# Altium schematic symbol library LED.SchLib: 54 symbols
Pins are listed as number, name and electrical type; pins without a type are passive.

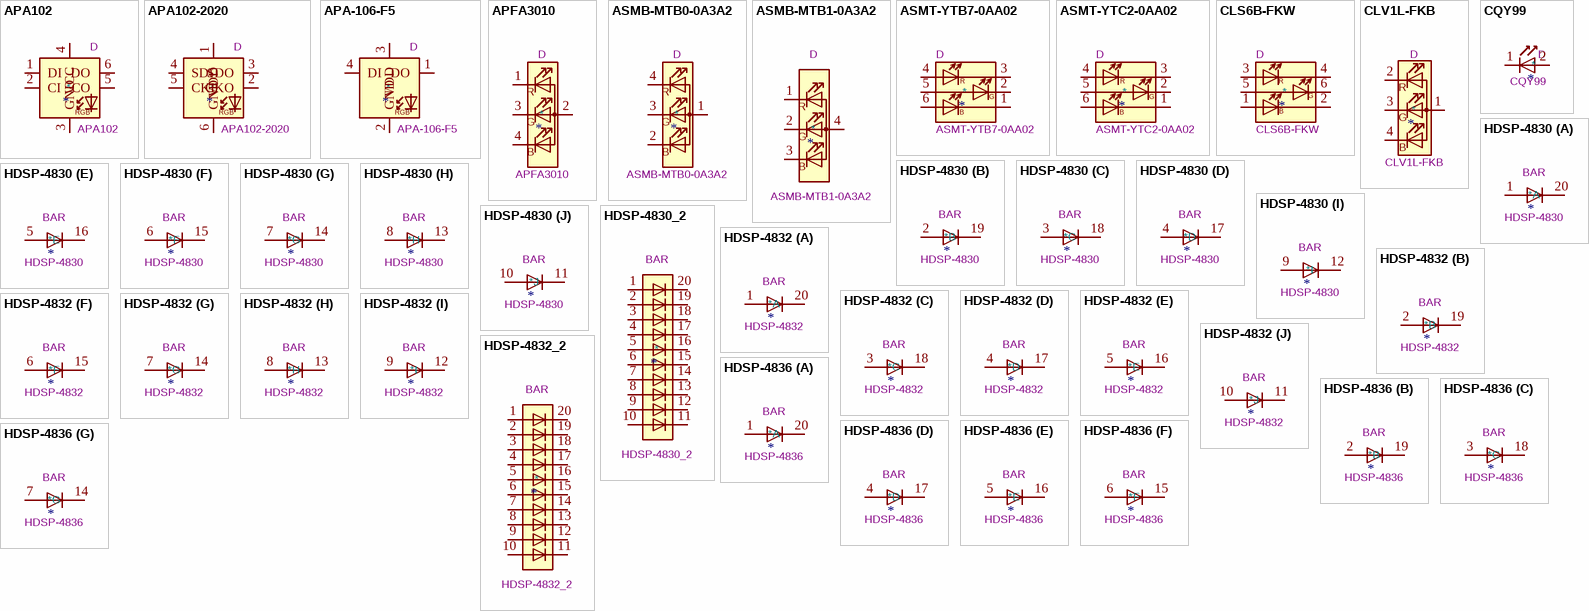
[diagram p0: symbols APA102 to HDSP-4836]

## APA102
designator *  value APA102  Reference: D
ki_keywords: RGB LED addressable 8bit pwm 5bit greyscale; ki_description: RGB LED with integrated controller; ki_fp_filters: LED*RGB*5050*; Footprint: LED_SMD:LED_RGB_5050-6; Datasheet: http://www.led-color.com/upload/201506/APA102%20LED.pdf
pins: 1 DI, 2 CI, 3 GND, 4 VCC, 5 CO, 6 DO
text: RGB

## APA102-2020
designator *  value APA102-2020  Reference: D
ki_keywords: RGB LED addressable 8bit pwm 5bit greyscale; ki_description: RGB LED with integrated controller; ki_fp_filters: LED*APA102*; Footprint: LED_SMD:LED-APA102-2020; Datasheet: http://www.led-color.com/upload/201604/APA102-2020%20SMD%20LED.pdf
pins: 1 VDD, 2 CKO, 3 SDO, 4 SDI, 5 CKI, 6 GND
text: RGB

## APA-106-F5
designator *  value APA-106-F5  Reference: D
ki_keywords: RGB LED addressable 8bit pwm 5bit greyscale; ki_description: RGB LED with integrated controller, 5mm Package; ki_fp_filters: LED*D5.0mm*RGB*; Footprint: LED_THT:LED_D5.0mm-4_RGB; Datasheet: https://cdn.sparkfun.com/datasheets/Components/LED/COM-12877.pdf
pins: 1 DO, 2 GND, 3 VDD, 4 DI
text: RGB

## APFA3010
designator *  value APFA3010  Reference: D
ki_keywords: LED RGB SMD Kingbright APFA3010 Horizontal; ki_description: LED RGB, Common Anode, SMD, 3.0x1.5mm, Horizontal; ki_fp_filters: *Kingbright*APFA3010*3x1.5mm*Horizontal*; Footprint: LED_SMD:LED_Kingbright_APFA3010_3x1.5mm_Horizontal; Datasheet: http://www.kingbrightusa.com/images/catalog/SPEC/APFA3010LSEEZGKQBKC.pdf
pins: 1 R, 2 A, 3 G, 4 B

## ASMB-MTB0-0A3A2
designator *  value ASMB-MTB0-0A3A2  Reference: D
ki_keywords: led rgb diode; ki_description: Tricolor Black Surface LED, Common Anode Pin 1, PLCC-4; ki_fp_filters: *Avago*PLCC4*3.2x2.8mm*; Footprint: LED_SMD:LED_Avago_PLCC4_3.2x2.8mm_CW; Datasheet: https://docs.broadcom.com/docs/AV02-4186EN
pins: 1 A, 2 BK, 3 GK, 4 RK
text: R; G; B

## ASMB-MTB1-0A3A2
designator *  value ASMB-MTB1-0A3A2  Reference: D
ki_keywords: led rgb diode; ki_description: Tricolor Black Surface LED, Common Anode Pin 4, PLCC-4; ki_fp_filters: *Avago*PLCC4*3.2x2.8mm*; Footprint: LED_SMD:LED_Avago_PLCC4_3.2x2.8mm_CW; Datasheet: https://docs.broadcom.com/docs/AV02-4194EN
pins: 1 RK, 2 GK, 3 BK, 4 A
text: R; G; B

## ASMT-YTB7-0AA02
designator *  value ASMT-YTB7-0AA02  Reference: D
ki_keywords: LED RGB; ki_description: Triple LED RVB (Avago Technology); ki_fp_filters: LED?Avago?PLCC6?3x2.8mm*; Footprint: LED_SMD:LED_Avago_PLCC6_3x2.8mm; Datasheet: https://docs.broadcom.com/docs/AV02-3793EN
pins: 1 KB, 2 KG, 3 KR, 4 AR, 5 AG, 6 AB
text: R; G; B

## ASMT-YTC2-0AA02
designator *  value ASMT-YTC2-0AA02  Reference: D
ki_keywords: LED RGB; ki_description: Triple LED RVB (Avago Technology); ki_fp_filters: LED?Avago?PLCC6?3x2.8mm*; Footprint: LED_SMD:LED_Avago_PLCC6_3x2.8mm; Datasheet: http://www.avagotech.com/docs/AV02-2589EN
pins: 1 KB, 2 KG, 3 KR, 4 AR, 5 AG, 6 AB
text: R; G; B

## CLS6B-FKW
designator *  value CLS6B-FKW  Reference: D
ki_keywords: LED RGB; ki_description: Cree PLCC6 3 in 1 SMD LED, PLCC-6; ki_fp_filters: LED*Cree*PLCC*4.7x1.5mm*; Footprint: LED_SMD:LED_Cree-PLCC6_4.7x1.5mm; Datasheet: https://www.cree.com/led-components/media/documents/CLS6B-FKW.pdf
pins: 1 AB, 2 KB, 3 AR, 4 KR, 5 AG, 6 KR
text: R; G; B

## CLV1L-FKB
designator *  value CLV1L-FKB  Reference: D
ki_keywords: led rgb diode; ki_description: Cree PLCC4 3 in 1 SMD LED; ki_fp_filters: *Cree*PLCC4*3.2x2.8mm*; Footprint: LED_SMD:LED_Cree-PLCC4_3.2x2.8mm_CCW; Datasheet: http://www.cree.com/led-components/media/documents/CLV1L-FKB-1238.pdf
pins: 1 A, 2 RK, 3 GK, 4 BK
text: R; G; B

## CQY99
designator *  value CQY99  Reference: D
ki_keywords: IR LED; ki_description: 950nm IR-LED, 5mm; ki_fp_filters: LED*5.0mm*IRGrey*; Footprint: LED_THT:LED_D5.0mm_IRGrey; Datasheet: https://www.prtice.info/IMG/pdf/CQY99.pdf
pins: 1 K, 2 A

## HDSP-4830
designator *  value HDSP-4830  Reference: BAR
ki_keywords: display LED array; ki_description: 10-element LED arrays, high efficient red; ki_fp_filters: HDSP?48*; Footprint: Display:HDSP-4830; Datasheet: https://docs.broadcom.com/docs/AV02-1798EN
part A pins: 1 A, 20 K
part B pins: 2 A, 19 K
part C pins: 3 A, 18 K
part D pins: 4 A, 17 K
part E pins: 5 A, 16 K
part F pins: 6 A, 15 K
part G pins: 7 A, 14 K
part H pins: 8 A, 13 K
part I pins: 9 A, 12 K
part J pins: 10 A, 11 K

## HDSP-4830_2
designator *  value HDSP-4830_2  Reference: BAR
ki_keywords: display LED array; ki_description: BAR GRAPH 10 segment block, high efficiency red; ki_fp_filters: HDSP?48*; Footprint: Display:HDSP-4830; Datasheet: https://docs.broadcom.com/docs/AV02-1798EN
pins: 1 A, 2 A, 3 A, 4 A, 5 A, 6 A, 7 A, 8 A, 9 A, 10 A, 11 K, 12 K, 13 K, 14 K, 15 K, 16 K, 17 K, 18 K, 19 K, 20 K

## HDSP-4832
designator *  value HDSP-4832  Reference: BAR
ki_keywords: display LED array; ki_description: 10-element LED arrays, Mix of high efficient red, yellow and green; ki_fp_filters: HDSP?48*; Footprint: Display:HDSP-4832; Datasheet: https://docs.broadcom.com/docs/AV02-1798EN
part A pins: 1 A, 20 K
part B pins: 2 A, 19 K
part C pins: 3 A, 18 K
part D pins: 4 A, 17 K
part E pins: 5 A, 16 K
part F pins: 6 A, 15 K
part G pins: 7 A, 14 K
part H pins: 8 A, 13 K
part I pins: 9 A, 12 K
part J pins: 10 A, 11 K

## HDSP-4832_2
designator *  value HDSP-4832_2  Reference: BAR
ki_keywords: display LED array; ki_description: BAR GRAPH 10 segment block, Mix of high efficiency red, yellow and green; ki_fp_filters: HDSP?48*; Footprint: Display:HDSP-4832; Datasheet: https://docs.broadcom.com/docs/AV02-1798EN
pins: 1 A, 2 A, 3 A, 4 A, 5 A, 6 A, 7 A, 8 A, 9 A, 10 A, 11 K, 12 K, 13 K, 14 K, 15 K, 16 K, 17 K, 18 K, 19 K, 20 K

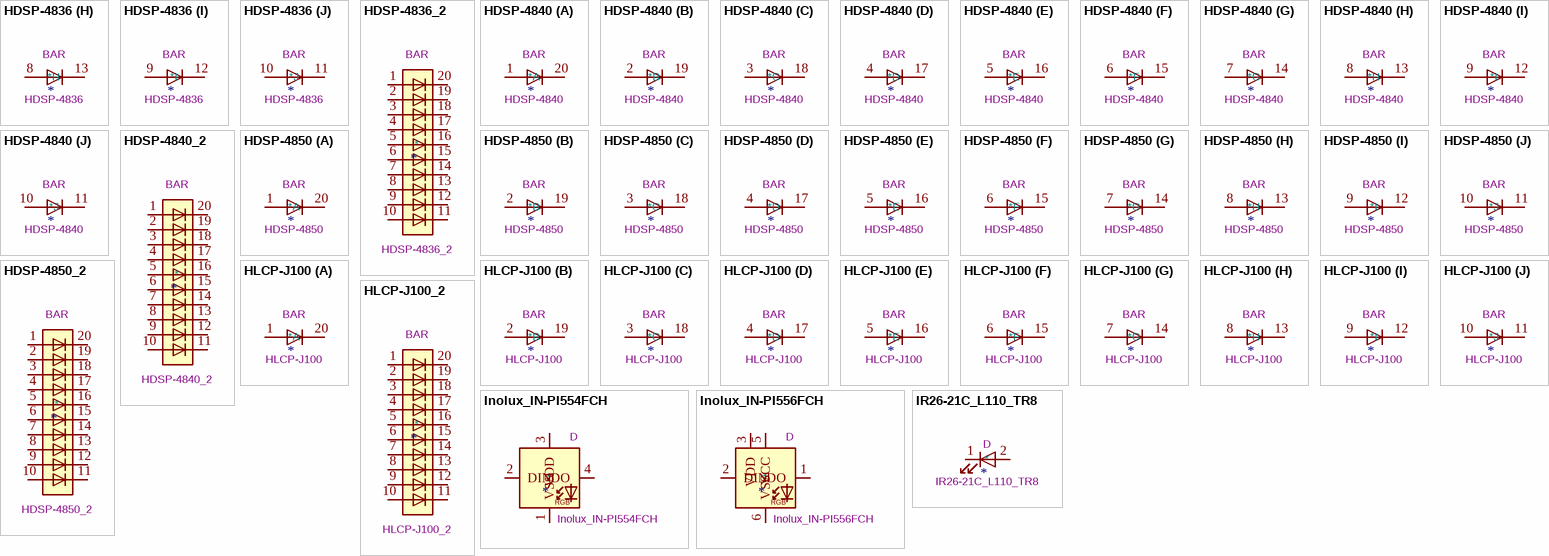
[diagram p1: symbols HDSP-4836 to IR26-21C_L110_TR8]

## HDSP-4836
designator *  value HDSP-4836  Reference: BAR
ki_keywords: display LED array; ki_description: 10-element LED arrays, Mix of high efficient red, yellow and green; ki_fp_filters: HDSP?48*; Footprint: Display:HDSP-4836; Datasheet: https://docs.broadcom.com/docs/AV02-1798EN
part A pins: 1 A, 20 K
part B pins: 2 A, 19 K
part C pins: 3 A, 18 K
part D pins: 4 A, 17 K
part E pins: 5 A, 16 K
part F pins: 6 A, 15 K
part G pins: 7 A, 14 K
part H pins: 8 A, 13 K
part I pins: 9 A, 12 K
part J pins: 10 A, 11 K

## HDSP-4836_2
designator *  value HDSP-4836_2  Reference: BAR
ki_keywords: display LED array; ki_description: BAR GRAPH 10 segment block, Mix of high efficiency red, yellow and green; ki_fp_filters: HDSP?48*; Footprint: Display:HDSP-4836; Datasheet: https://docs.broadcom.com/docs/AV02-1798EN
pins: 1 A, 2 A, 3 A, 4 A, 5 A, 6 A, 7 A, 8 A, 9 A, 10 A, 11 K, 12 K, 13 K, 14 K, 15 K, 16 K, 17 K, 18 K, 19 K, 20 K

## HDSP-4840
designator *  value HDSP-4840  Reference: BAR
ki_keywords: display LED array; ki_description: 10-element LED arrays, Yellow; ki_fp_filters: HDSP?48*; Footprint: Display:HDSP-4840; Datasheet: https://docs.broadcom.com/docs/AV02-1798EN
part A pins: 1 A, 20 K
part B pins: 2 A, 19 K
part C pins: 3 A, 18 K
part D pins: 4 A, 17 K
part E pins: 5 A, 16 K
part F pins: 6 A, 15 K
part G pins: 7 A, 14 K
part H pins: 8 A, 13 K
part I pins: 9 A, 12 K
part J pins: 10 A, 11 K

## HDSP-4840_2
designator *  value HDSP-4840_2  Reference: BAR
ki_keywords: display LED array; ki_description: BAR GRAPH 10 segment block, yellow; ki_fp_filters: HDSP?48*; Footprint: Display:HDSP-4840; Datasheet: https://docs.broadcom.com/docs/AV02-1798EN
pins: 1 A, 2 A, 3 A, 4 A, 5 A, 6 A, 7 A, 8 A, 9 A, 10 A, 11 K, 12 K, 13 K, 14 K, 15 K, 16 K, 17 K, 18 K, 19 K, 20 K

## HDSP-4850
designator *  value HDSP-4850  Reference: BAR
ki_keywords: display LED array; ki_description: 10-element LED arrays, Green; ki_fp_filters: HDSP?48*; Footprint: Display:HDSP-4850; Datasheet: https://docs.broadcom.com/docs/AV02-1798EN
part A pins: 1 A, 20 K
part B pins: 2 A, 19 K
part C pins: 3 A, 18 K
part D pins: 4 A, 17 K
part E pins: 5 A, 16 K
part F pins: 6 A, 15 K
part G pins: 7 A, 14 K
part H pins: 8 A, 13 K
part I pins: 9 A, 12 K
part J pins: 10 A, 11 K

## HDSP-4850_2
designator *  value HDSP-4850_2  Reference: BAR
ki_keywords: display LED array; ki_description: BAR GRAPH 10 segment block, green; ki_fp_filters: HDSP?48*; Footprint: Display:HDSP-4850; Datasheet: https://docs.broadcom.com/docs/AV02-1798EN
pins: 1 A, 2 A, 3 A, 4 A, 5 A, 6 A, 7 A, 8 A, 9 A, 10 A, 11 K, 12 K, 13 K, 14 K, 15 K, 16 K, 17 K, 18 K, 19 K, 20 K

## HLCP-J100
designator *  value HLCP-J100  Reference: BAR
ki_keywords: display LED array; ki_description: 10-element LED arrays, AIGaAs Red; ki_fp_filters: HLCP*J100*; Footprint: Display:HLCP-J100; Datasheet: https://docs.broadcom.com/docs/AV02-1798EN
part A pins: 1 A, 20 K
part B pins: 2 A, 19 K
part C pins: 3 A, 18 K
part D pins: 4 A, 17 K
part E pins: 5 A, 16 K
part F pins: 6 A, 15 K
part G pins: 7 A, 14 K
part H pins: 8 A, 13 K
part I pins: 9 A, 12 K
part J pins: 10 A, 11 K

## HLCP-J100_2
designator *  value HLCP-J100_2  Reference: BAR
ki_keywords: display LED array; ki_description: BAR GRAPH 10 segment block, AlGaAs red; ki_fp_filters: HLCP?J100*; Footprint: Display:HLCP-J100; Datasheet: https://docs.broadcom.com/docs/AV02-1798EN
pins: 1 A, 2 A, 3 A, 4 A, 5 A, 6 A, 7 A, 8 A, 9 A, 10 A, 11 K, 12 K, 13 K, 14 K, 15 K, 16 K, 17 K, 18 K, 19 K, 20 K

## Inolux_IN-PI554FCH
designator *  value Inolux_IN-PI554FCH  Reference: D
ki_keywords: RGB LED NeoPixel addressable; ki_description: 5050 RGB LED 4-Pin with integrated IC; ki_fp_filters: LED*IN-PI554FCH*PLCC*5.0x5.0mm*P3.2mm*; Footprint: LED_SMD:LED_Inolux_IN-PI554FCH_PLCC4_5.0x5.0mm_P3.2mm; Datasheet: http://www.inolux-corp.com/datasheet/SMDLED/Addressable%20LED/IN-PI554FCH.pdf
pins: 1 VSS, 2 DIN, 3 VDD, 4 DO
text: RGB

## Inolux_IN-PI556FCH
designator *  value Inolux_IN-PI556FCH  Reference: D
ki_keywords: RGB LED NeoPixel addressable; ki_description: 5050 RGB LED 6-Pin with integrated IC; ki_fp_filters: LED*WS2812*PLCC*5.0x5.0mm*P1.6mm*; Footprint: LED_SMD:LED_WS2812_PLCC6_5.0x5.0mm_P1.6mm; Datasheet: http://www.inolux-corp.com/datasheet/SMDLED/Addressable%20LED/IN-PI556FCH.pdf
pins: 1 DO, 2 DIN, 3 VDD, 4 NC hidden, 5 VCC, 6 VSS
text: RGB

## IR26-21C_L110_TR8
designator *  value IR26-21C_L110_TR8  Reference: D
ki_keywords: IR LED; ki_description: 940nm, 20 deg, Infrared LED, 1206; ki_fp_filters: LED*1206*3216Metric*; Footprint: LED_SMD:LED_1206_3216Metric; Datasheet: http://www.everlight.com/file/ProductFile/IR26-21C-L110-TR8.pdf
pins: 1 K, 2 A

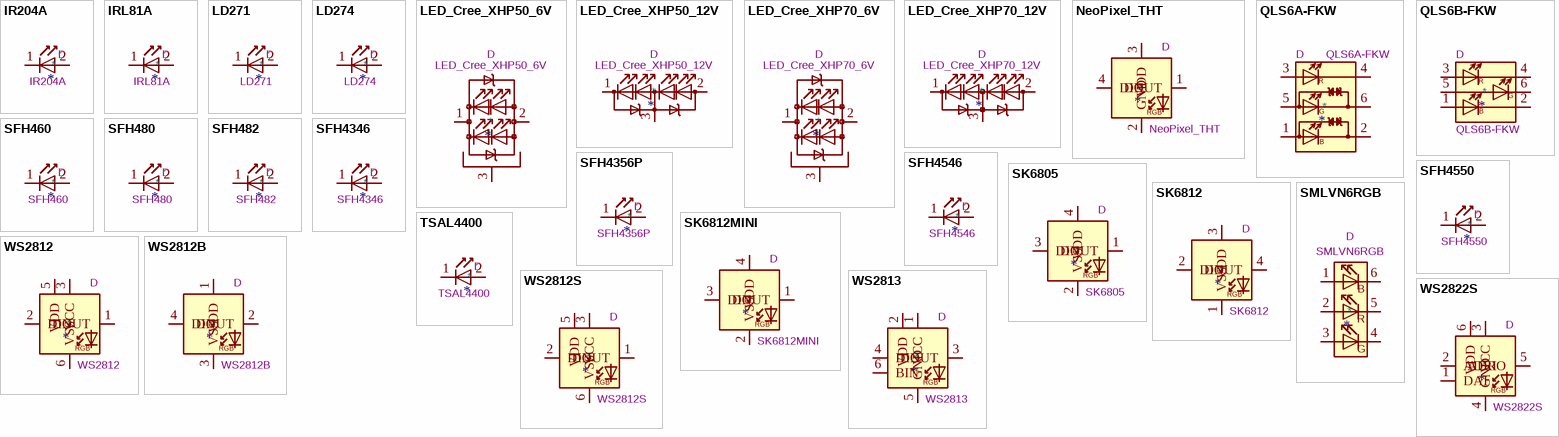
[diagram p2: symbols IR204A to WS2822S]

## IR204A
designator *  value IR204A  Reference: D
ki_keywords: opto IR LED; ki_description: Infrared LED , 3mm LED package; ki_fp_filters: LED*3.0mm*IRBlack*; Footprint: LED_THT:LED_D3.0mm_IRBlack; Datasheet: http://www.everlight.com/file/ProductFile/IR204-A.pdf
pins: 1 K, 2 A

## IRL81A
designator *  value IRL81A  Reference: D
ki_keywords: IR LED; ki_description: 850nm High Power Infrared Emitter, Side-Emitter package; ki_fp_filters: LED*SideEmitter*Rectangular*W4.5mm*H1.6mm*; Footprint: LED_THT:LED_SideEmitter_Rectangular_W4.5mm_H1.6mm; Datasheet: http://www.osram-os.com/Graphics/XPic0/00203825_0.pdf
pins: 1 K, 2 A

## LD271
designator *  value LD271  Reference: D
ki_keywords: IR LED; ki_description: 940nm IR-LED, 5mm; ki_fp_filters: LED*5.0mm*IRGrey*; Footprint: LED_THT:LED_D5.0mm_IRGrey; Datasheet: http://www.alliedelec.com/m/d/40788c34903a719969df15f1fbea1056.pdf
pins: 1 K, 2 A

## LD274
designator *  value LD274  Reference: D
ki_keywords: IR LED; ki_description: 950nm IR-LED, 5mm; ki_fp_filters: LED*5.0mm*IRGrey*; Footprint: LED_THT:LED_D5.0mm_IRGrey; Datasheet: http://pdf.datasheetcatalog.com/datasheet/siemens/LD274.pdf
pins: 1 K, 2 A

## LED_Cree_XHP50_6V
designator *  value LED_Cree_XHP50_6V  Reference: D
ki_keywords: led diode; ki_description: XLamp® XHP50 LED, 6V footprint (2x2 serial LEDs in parallel); ki_fp_filters: LED?Cree?XHP50?6V*; Footprint: LED_SMD:LED_Cree-XHP50_6V; Datasheet: http://www.cree.com/%7E/media/Files/Cree/LED%20Components%20and%20Modules/XLamp/Data%20and%20Binning/ds%20XHP50.pdf
pins: 1 K, 2 A, 3 PAD

## LED_Cree_XHP50_12V
designator *  value LED_Cree_XHP50_12V  Reference: D
ki_keywords: led diode; ki_description: XLamp® XHP50 LED, 12V footprint (all 4 LEDs in series); ki_fp_filters: LED?Cree?XHP50?12V*; Footprint: LED_SMD:LED_Cree-XHP50_12V; Datasheet: http://www.cree.com/%7E/media/Files/Cree/LED%20Components%20and%20Modules/XLamp/Data%20and%20Binning/ds%20XHP50.pdf
pins: 1 K, 2 A, 3 PAD

## LED_Cree_XHP70_6V
designator *  value LED_Cree_XHP70_6V  Reference: D
ki_keywords: led diode; ki_description: XLamp® XHP70 LED, 6V footprint (2x2 serial LEDs in parallel); ki_fp_filters: LED?Cree?XHP70?6V*; Footprint: LED_SMD:LED_Cree-XHP70_6V; Datasheet: http://www.cree.com/%7E/media/Files/Cree/LED%20Components%20and%20Modules/XLamp/Data%20and%20Binning/ds%20XHP70.pdf
pins: 1 K, 2 A, 3 PAD

## LED_Cree_XHP70_12V
designator *  value LED_Cree_XHP70_12V  Reference: D
ki_keywords: led diode; ki_description: XLamp® XHP70 LED, 12V footprint (all 4 LEDs in series); ki_fp_filters: LED?Cree?XHP70?12V*; Footprint: LED_SMD:LED_Cree-XHP70_12V; Datasheet: http://www.cree.com/%7E/media/Files/Cree/LED%20Components%20and%20Modules/XLamp/Data%20and%20Binning/ds%20XHP70.pdf
pins: 1 K, 2 A, 3 PAD

## NeoPixel_THT
designator *  value NeoPixel_THT  Reference: D
ki_keywords: RGB LED NeoPixel addressable; ki_description: RGB LED with integrated controller, 5mm/8mm LED package; ki_fp_filters: LED*D5.0mm* LED*D8.0mm*; Datasheet: https://www.adafruit.com/product/1938
pins: 1 DOUT, 2 GND, 3 VDD, 4 DIN
text: RGB

## QLS6A-FKW
designator *  value QLS6A-FKW  Reference: D
ki_keywords: LED RGB; ki_description: Cree PLCC6 3 in 1 SMD LED with zener protection, PLCC-6; ki_fp_filters: LED*Cree*PLCC*4.7x1.5mm*; Footprint: LED_SMD:LED_Cree-PLCC6_4.7x1.5mm; Datasheet: https://www.cree.com/led-components/media/documents/1381-QLS6AFKW.pdf
pins: 1 AB, 2 KB, 3 AR, 4 KR, 5 AG, 6 KR
text: R; G; B

## QLS6B-FKW
designator *  value QLS6B-FKW  Reference: D
ki_keywords: LED RGB; ki_description: Cree PLCC6 3 in 1 SMD LED, PLCC-6; ki_fp_filters: LED*Cree*PLCC*4.7x1.5mm*; Footprint: LED_SMD:LED_Cree-PLCC6_4.7x1.5mm; Datasheet: https://www.cree.com/led-components/media/documents/1397-QLS6BFKW.pdf
pins: 1 AB, 2 KB, 3 AR, 4 KR, 5 AG, 6 KR
text: R; G; B

## SFH460
designator *  value SFH460  Reference: D
ki_keywords: opto IR LED; ki_description: GaAlAs Infrared LED, TO-18 package; ki_fp_filters: TO?18*Window*; Footprint: Package_TO_SOT_THT:TO-18-2_Window; Datasheet: http://www.osram-os.com/Graphics/XPic6/00029609_0.pdf/SFh%20460.pdf
pins: 1 K, 2 A

## SFH480
designator *  value SFH480  Reference: D
ki_keywords: IR LED Opto; ki_description: GaAlAs Infrared LED (880 nm), TO-18 package; ki_fp_filters: TO?18*Window*; Footprint: Package_TO_SOT_THT:TO-18-2_Window; Datasheet: http://www.osram-os.com/Graphics/XPic1/00083613_0.pdf
pins: 1 K, 2 A

## SFH482
designator *  value SFH482  Reference: D
ki_keywords: opto IR LED; ki_description: GaAlAs Infrared LED (880 nm), TO-18 package; ki_fp_filters: TO?18*Window*; Footprint: Package_TO_SOT_THT:TO-18-2_Window; Datasheet: http://www.osram-os.com/Graphics/XPic2/00182155_0.pdf/SFH%20482%20E7800,%20Lead%20(Pb)%20Free%20Product%20-%20RoHS%20Compliant.pdf
pins: 1 K, 2 A

## SFH4346
designator *  value SFH4346  Reference: D
ki_keywords: opto IR LED; ki_description: Infrared LED , 3mm LED package; ki_fp_filters: LED*3.0mm*IRBlack*; Footprint: LED_THT:LED_D3.0mm_IRBlack; Datasheet: http://cdn-reichelt.de/documents/datenblatt/A500/SFH4346.pdf
pins: 1 K, 2 A

## SFH4356P
designator *  value SFH4356P  Reference: D
ki_keywords: opto IR LED; ki_description: Infrared LED , 3mm LED package; ki_fp_filters: LED*3.0mm*IRBlack*; Footprint: LED_THT:LED_D3.0mm_IRBlack; Datasheet: http://www.osram-os.com/Graphics/XPic5/00181708_0.pdf
pins: 1 K, 2 A

## SFH4546
designator *  value SFH4546  Reference: D
ki_keywords: IR LED; ki_description: High-Power IR LED 940nm; ki_fp_filters: LED*5.0mm*IRGrey*; Footprint: LED_THT:LED_D5.0mm_IRGrey; Datasheet: http://www.osram-os.com/Graphics/XPic1/00101982_0.pdf
pins: 1 K, 2 A

## SFH4550
designator *  value SFH4550  Reference: D
ki_keywords: IR LED; ki_description: 950nm High-Power IR-LED, 5mm; ki_fp_filters: LED*5.0mm*IRGrey*; Footprint: LED_THT:LED_D5.0mm_IRGrey; Datasheet: http://www.osram-os.com/Graphics/XPic3/00116140_0.pdf
pins: 1 K, 2 A

## SK6805
designator *  value SK6805  Reference: D
ki_keywords: RGB LED NeoPixel Nano addressable; ki_description: RGB LED with integrated controller; ki_fp_filters: LED*SK6805*PLCC*2.4x2.7mm*P1.3mm*; Footprint: LED_SMD:LED_SK6805_PLCC4_2.4x2.7mm_P1.3mm; Datasheet: https://cdn-shop.adafruit.com/product-files/3484/3484_Datasheet.pdf
pins: 1 DOUT, 2 VSS, 3 DIN, 4 VDD
text: RGB

## SK6812
designator *  value SK6812  Reference: D
ki_keywords: RGB LED NeoPixel addressable; ki_description: RGB LED with integrated controller; ki_fp_filters: LED*SK6812*PLCC*5.0x5.0mm*P3.2mm*; Footprint: LED_SMD:LED_SK6812_PLCC4_5.0x5.0mm_P3.2mm; Datasheet: https://cdn-shop.adafruit.com/product-files/1138/SK6812+LED+datasheet+.pdf
pins: 1 VSS, 2 DIN, 3 VDD, 4 DOUT
text: RGB

## SK6812MINI
designator *  value SK6812MINI  Reference: D
ki_keywords: RGB LED NeoPixel Mini addressable; ki_description: RGB LED with integrated controller; ki_fp_filters: LED*SK6812MINI*PLCC*3.5x3.5mm*P1.75mm*; Footprint: LED_SMD:LED_SK6812MINI_PLCC4_3.5x3.5mm_P1.75mm; Datasheet: https://cdn-shop.adafruit.com/product-files/2686/SK6812MINI_REV.01-1-2.pdf
pins: 1 DOUT, 2 VSS, 3 DIN, 4 VDD
text: RGB

## SMLVN6RGB
designator *  value SMLVN6RGB  Reference: D
ki_keywords: LED RGB Diode; ki_description: High Brightness Tri-Color LED, RGB, 3.5x2.8mm; ki_fp_filters: LED*ROHM*SMLVN6*; Footprint: LED_SMD:LED_ROHM_SMLVN6; Datasheet: https://www.rohm.com/datasheet/SMLVN6RGB1U
pins: 1 BA, 2 RA, 3 GA, 4 GK, 5 RK, 6 BK
text: B; R; G

## TSAL4400
designator *  value TSAL4400  Reference: D
ki_keywords: opto IR LED; ki_description: Infrared LED , 3mm LED package; ki_fp_filters: LED*3.0mm*IRBlack*; Footprint: LED_THT:LED_D3.0mm_IRBlack; Datasheet: http://www.vishay.com/docs/81006/tsal4400.pdf
pins: 1 K, 2 A

## WS2812
designator *  value WS2812  Reference: D
ki_keywords: RGB LED NeoPixel addressable; ki_description: RGB LED with integrated controller; ki_fp_filters: LED*WS2812*PLCC*5.0x5.0mm*P1.6mm*; Footprint: LED_SMD:LED_WS2812_PLCC6_5.0x5.0mm_P1.6mm; Datasheet: https://cdn-shop.adafruit.com/datasheets/WS2812.pdf
pins: 1 DOUT, 2 DIN, 3 VCC, 4 NC hidden, 5 VDD, 6 VSS
text: RGB

## WS2812B
designator *  value WS2812B  Reference: D
ki_keywords: RGB LED NeoPixel addressable; ki_description: RGB LED with integrated controller; ki_fp_filters: LED*WS2812*PLCC*5.0x5.0mm*P3.2mm*; Footprint: LED_SMD:LED_WS2812B_PLCC4_5.0x5.0mm_P3.2mm; Datasheet: https://cdn-shop.adafruit.com/datasheets/WS2812B.pdf
pins: 1 VDD, 2 DOUT, 3 VSS, 4 DIN
text: RGB

## WS2812S
designator *  value WS2812S  Reference: D
ki_keywords: RGB LED addressable; ki_description: RGB LED with integrated controller; ki_fp_filters: LED*WS2812*PLCC*5.0x5.0mm*P1.6mm*; Footprint: LED_SMD:LED_WS2812_PLCC6_5.0x5.0mm_P1.6mm; Datasheet: http://www.world-semi.com/DownLoadFile/115
pins: 1 DOUT, 2 DIN, 3 VCC, 4 NC hidden, 5 VDD, 6 VSS
text: RGB

## WS2813
designator *  value WS2813  Reference: D
ki_keywords: RGB LED addressable; ki_description: RGB LED with integrated controller; ki_fp_filters: LED*WS2812*PLCC*5.0x5.0mm*P1.6mm*; Footprint: LED_SMD:LED_WS2812_PLCC6_5.0x5.0mm_P1.6mm; Datasheet: http://www.normandled.com/upload/201605/WS2813%20LED%20Datasheet.pdf
pins: 1 VCC, 2 VDD, 3 DOUT, 4 DIN, 5 GND, 6 BIN
text: RGB

## WS2822S
designator *  value WS2822S  Reference: D
ki_keywords: RGB LED addressable; ki_description: RGB LED with integrated controller; ki_fp_filters: LED*WS2812*PLCC*5.0x5.0mm*P1.6mm*; Footprint: LED_SMD:LED_WS2812_PLCC6_5.0x5.0mm_P1.6mm; Datasheet: http://akizukidenshi.com/download/ds/worldsemi/WS2822S.pdf
pins: 1 DAI, 2 ADRI, 3 VCC, 4 GND, 5 ADRO, 6 VDD
text: RGB